# Altium schematic symbol library DSubConnectors.SchLib: 1 symbol
Pins are listed as number, name and electrical type; pins without a type are passive.

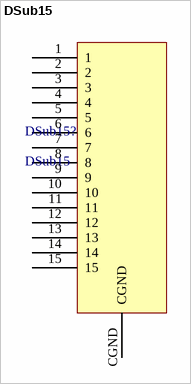
[diagram p0: symbol DSub15]

## DSub15
designator DSub15?
DSub15 Connector Tyco PN 1734344
footprint DSub15 (3 Row 15 Pin Female Right Angle Connector Tyco PN 1734344)
pins: 1, 2, 3, 4, 5, 6, 7, 8, 9, 10, 11, 12, 13, 14, 15, CGND